# EAGLE library part TMS3202810 (library camillo_parts)
TMS3202810 - Digital Signal Processor
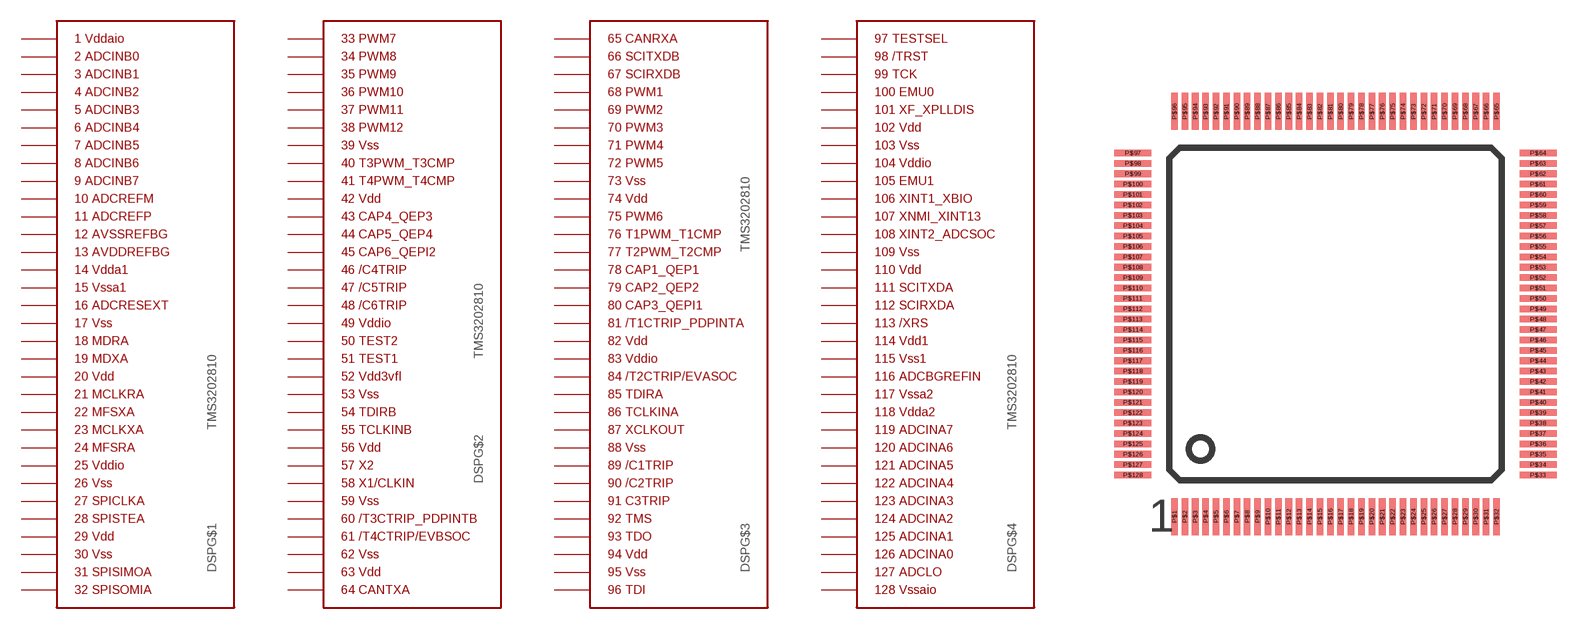
[diagram p3: symbol with the pads of PQFPG128; footprint PQFPG128]

Designator prefix DSP; gates G$1=2810_S1 G$2=2810_S2 G$3=2810_S3 G$4=2810_S4

## TMS3202810  [PQFPG128]
P$1  G$1:P$1
P$2  G$1:P$2
P$3  G$1:P$3
P$4  G$1:P$4
P$5  G$1:P$5
P$6  G$1:P$6
P$7  G$1:P$7
P$8  G$1:P$8
P$9  G$1:P$9
P$10  G$1:P$10
P$11  G$1:P$11
P$12  G$1:P$12
P$13  G$1:P$13
P$14  G$1:P$14
P$15  G$1:P$15
P$16  G$1:P$16
P$17  G$1:P$17
P$18  G$1:P$18
P$19  G$1:P$19
P$20  G$1:P$20
P$21  G$1:P$21
P$22  G$1:P$22
P$23  G$1:P$23
P$24  G$1:P$24
P$25  G$1:P$25
P$26  G$1:P$26
P$27  G$1:P$27
P$28  G$1:P$28
P$29  G$1:P$29
P$30  G$1:P$30
P$31  G$1:P$31
P$32  G$1:P$32
P$33  G$2:P$1
P$34  G$2:P$2
P$35  G$2:P$3
P$36  G$2:P$4
P$37  G$2:P$5
P$38  G$2:P$6
P$39  G$2:P$7
P$40  G$2:P$8
P$41  G$2:P$9
P$42  G$2:P$10
P$43  G$2:P$11
P$44  G$2:P$12
P$45  G$2:P$13
P$46  G$2:P$14
P$47  G$2:P$15
P$48  G$2:P$16
P$49  G$2:P$17
P$50  G$2:P$18
P$51  G$2:P$19
P$52  G$2:P$20
P$53  G$2:P$21
P$54  G$2:P$22
P$55  G$2:P$23
P$56  G$2:P$24
P$57  G$2:P$25
P$58  G$2:P$26
P$59  G$2:P$27
P$60  G$2:P$28
P$61  G$2:P$29
P$62  G$2:P$30
P$63  G$2:P$31
P$64  G$2:P$32
P$65  G$3:P$1
P$66  G$3:P$2
P$67  G$3:P$3
P$68  G$3:P$4
P$69  G$3:P$5
P$70  G$3:P$6
P$71  G$3:P$7
P$72  G$3:P$8
P$73  G$3:P$9
P$74  G$3:P$10
P$75  G$3:P$11
P$76  G$3:P$12
P$77  G$3:P$13
P$78  G$3:P$14
P$79  G$3:P$15
P$80  G$3:P$16
P$81  G$3:P$17
P$82  G$3:P$18
P$83  G$3:P$19
P$84  G$3:P$20
P$85  G$3:P$21
P$86  G$3:P$22
P$87  G$3:P$23
P$88  G$3:P$24
P$89  G$3:P$25
P$90  G$3:P$26
P$91  G$3:P$27
P$92  G$3:P$28
P$93  G$3:P$29
P$94  G$3:P$30
P$95  G$3:P$31
P$96  G$3:P$32
P$97  G$4:P$1
P$98  G$4:P$2
P$99  G$4:P$3
P$100  G$4:P$4
P$101  G$4:P$5
P$102  G$4:P$6
P$103  G$4:P$7
P$104  G$4:P$8
P$105  G$4:P$9
P$106  G$4:P$10
P$107  G$4:P$11
P$108  G$4:P$12
P$109  G$4:P$13
P$110  G$4:P$14
P$111  G$4:P$15
P$112  G$4:P$16
P$113  G$4:P$17
P$114  G$4:P$18
P$115  G$4:P$19
P$116  G$4:P$20
P$117  G$4:P$21
P$118  G$4:P$22
P$119  G$4:P$23
P$120  G$4:P$24
P$121  G$4:P$25
P$122  G$4:P$26
P$123  G$4:P$27
P$124  G$4:P$28
P$125  G$4:P$29
P$126  G$4:P$30
P$127  G$4:P$31
P$128  G$4:P$32

## Footprint PQFPG128 (pad centres in mm)
smd 0.254 x 1.422: P$1 -6.2,-7.8; P$2 -5.8,-7.8; P$3 -5.4,-7.8; P$4 -5,-7.8; P$5 -4.6,-7.8; P$6 -4.2,-7.8; P$7 -3.8,-7.8; P$8 -3.4,-7.8; P$9 -3,-7.8; P$10 -2.6,-7.8; P$11 -2.2,-7.8; P$12 -1.8,-7.8; P$13 -1.4,-7.8; P$14 -1,-7.8; P$15 -0.6,-7.8; P$16 -0.2,-7.8; P$17 0.2,-7.8; P$18 0.6,-7.8; P$19 1,-7.8; P$20 1.4,-7.8; P$21 1.8,-7.8; P$22 2.2,-7.8; P$23 2.6,-7.8; P$24 3,-7.8; P$25 3.4,-7.8; P$26 3.8,-7.8; P$27 4.2,-7.8; P$28 4.6,-7.8; P$29 5,-7.8; P$30 5.4,-7.8; P$31 5.8,-7.8; P$32 6.2,-7.8; P$65 6.2,7.8; P$66 5.8,7.8; P$67 5.4,7.8; P$68 5,7.8; P$69 4.6,7.8; P$70 4.2,7.8; P$71 3.8,7.8; P$72 3.4,7.8; P$73 3,7.8; P$74 2.6,7.8; P$75 2.2,7.8; P$76 1.8,7.8; P$77 1.4,7.8; P$78 1,7.8; P$79 0.6,7.8; P$80 0.2,7.8; P$81 -0.2,7.8; P$82 -0.6,7.8; P$83 -1,7.8; P$84 -1.4,7.8; P$85 -1.8,7.8; P$86 -2.2,7.8; P$87 -2.6,7.8; P$88 -3,7.8; P$89 -3.4,7.8; P$90 -3.8,7.8; P$91 -4.2,7.8; P$92 -4.6,7.8; P$93 -5,7.8; P$94 -5.4,7.8; P$95 -5.8,7.8; P$96 -6.2,7.8
smd 1.422 x 0.254: P$33 7.8,-6.2; P$34 7.8,-5.8; P$35 7.8,-5.4; P$36 7.8,-5; P$37 7.8,-4.6; P$38 7.8,-4.2; P$39 7.8,-3.8; P$40 7.8,-3.4; P$41 7.8,-3; P$42 7.8,-2.6; P$43 7.8,-2.2; P$44 7.8,-1.8; P$45 7.8,-1.4; P$46 7.8,-1; P$47 7.8,-0.6; P$48 7.8,-0.2; P$49 7.8,0.2; P$50 7.8,0.6; P$51 7.8,1; P$52 7.8,1.4; P$53 7.8,1.8; P$54 7.8,2.2; P$55 7.8,2.6; P$56 7.8,3; P$57 7.8,3.4; P$58 7.8,3.8; P$59 7.8,4.2; P$60 7.8,4.6; P$61 7.8,5; P$62 7.8,5.4; P$63 7.8,5.8; P$64 7.8,6.2; P$97 -7.8,6.2; P$98 -7.8,5.8; P$99 -7.8,5.4; P$100 -7.8,5; P$101 -7.8,4.6; P$102 -7.8,4.2; P$103 -7.8,3.8; P$104 -7.8,3.4; P$105 -7.8,3; P$106 -7.8,2.6; P$107 -7.8,2.2; P$108 -7.8,1.8; P$109 -7.8,1.4; P$110 -7.8,1; P$111 -7.8,0.6; P$112 -7.8,0.2; P$113 -7.8,-0.2; P$114 -7.8,-0.6; P$115 -7.8,-1; P$116 -7.8,-1.4; P$117 -7.8,-1.8; P$118 -7.8,-2.2; P$119 -7.8,-2.6; P$120 -7.8,-3; P$121 -7.8,-3.4; P$122 -7.8,-3.8; P$123 -7.8,-4.2; P$124 -7.8,-4.6; P$125 -7.8,-5; P$126 -7.8,-5.4; P$127 -7.8,-5.8; P$128 -7.8,-6.2